# EAGLE library part 74LVC2T45DCT (library robotter_ic)
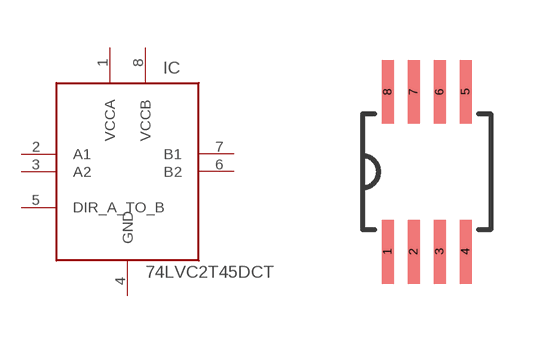
[diagram p27: symbol with the pads of SSOP8; footprint SSOP8]

Designator prefix IC

## 74LVC2T45DCT  [SSOP8]
1  VCCA  pwr
2  A1
3  A2
4  GND  pwr
5  DIR_A_TO_B
6  B2
7  B1
8  VCCB  pwr

## Footprint SSOP8 (pad centres in mm)
smd 0.3 x 1.6: 1 -0.975,-2; 2 -0.325,-2; 3 0.325,-2; 4 0.975,-2; 5 0.975,2; 6 0.325,2; 7 -0.325,2; 8 -0.975,2